# Altium schematic symbol library EVP-ATAL1B000.SchLib: 1 symbol
Pins are listed as number, name and electrical type; pins without a type are passive.

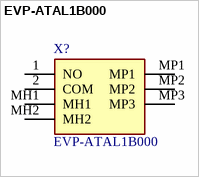
[diagram p0: symbol EVP-ATAL1B000]

## EVP-ATAL1B000
designator X?
Tactile Switches Edge Mount side push 1.6N 4.3x1.7mm; Manufacturer_Name: Panasonic; Geometry.Height: 1.105mm; Mouser Part Number: 667-EVP-ATAL1B000; Mouser Price/Stock: https://www.mouser.co.uk/ProductDetail/Panasonic/EVP-ATAL1B000?qs=7MVldsJ5Uawk2dHgJdanKg%3D%3D; Manufacturer_Part_Number: EVP-ATAL1B000; Datasheet Link: *
footprint EVPATAL1B000
pins: 1 NO, 2 COM, MH1, MH2, MP1, MP2, MP3